# EAGLE library part 50R-JMCS-G (library jst-jmc)
0.5mm Pitch SMT Board to Board Connector Source: http://www.jst-mfg.com/product/pdf/jpn/JMC.pdf http://www.jst-mfg.com/product/detail.php?series=147
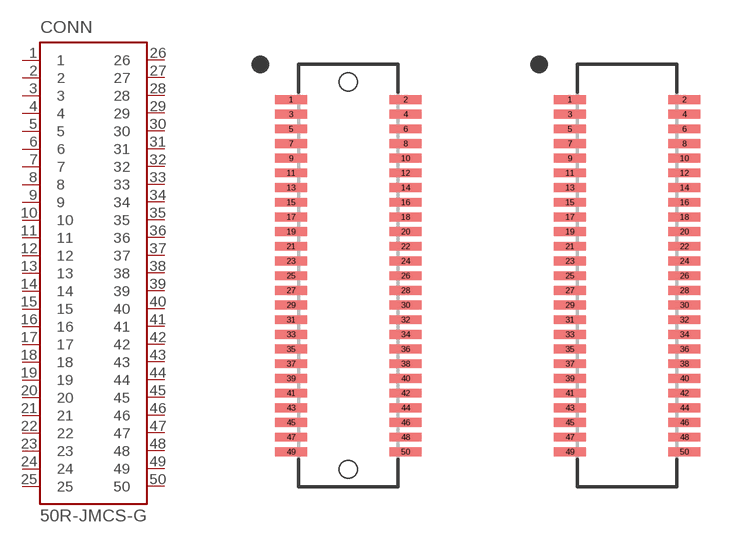
[diagram p19: symbol with the pads of 50R-JMCS-G-B-TF(S); footprints 50R-JMCS-G-B-TF(S), 50R-JMCS-G-TF(S)]

Designator prefix CONN

## 50R-JMCS-G-B-TE(S)  [50R-JMCS-G-B-TF(S)]
1  1
2  2
3  3
4  4
5  5
6  6
7  7
8  8
9  9
10  10
11  11
12  12
13  13
14  14
15  15
16  16
17  17
18  18
19  19
20  20
21  21
22  22
23  23
24  24
25  25
26  26
27  27
28  28
29  29
30  30
31  31
32  32
33  33
34  34
35  35
36  36
37  37
38  38
39  39
40  40
41  41
42  42
43  43
44  44
45  45
46  46
47  47
48  48
49  49
50  50

## 50R-JMCS-G-TE(S)  [50R-JMCS-G-TF(S)]
Pads as for 50R-JMCS-G-B-TF(S)

## Footprint 50R-JMCS-G-B-TF(S) (pad centres in mm)
smd 1.1 x 0.3: 1 -1.95,6; 2 1.95,6; 3 -1.95,5.5; 4 1.95,5.5; 5 -1.95,5; 6 1.95,5; 7 -1.95,4.5; 8 1.95,4.5; 9 -1.95,4; 10 1.95,4; 11 -1.95,3.5; 12 1.95,3.5; 13 -1.95,3; 14 1.95,3; 15 -1.95,2.5; 16 1.95,2.5; 17 -1.95,2; 18 1.95,2; 19 -1.95,1.5; 20 1.95,1.5; 21 -1.95,1; 22 1.95,1; 23 -1.95,0.5; 24 1.95,0.5; 25 -1.95,0; 26 1.95,0; 27 -1.95,-0.5; 28 1.95,-0.5; 29 -1.95,-1; 30 1.95,-1; 31 -1.95,-1.5; 32 1.95,-1.5; 33 -1.95,-2; 34 1.95,-2; 35 -1.95,-2.5; 36 1.95,-2.5; 37 -1.95,-3; 38 1.95,-3; 39 -1.95,-3.5; 40 1.95,-3.5; 41 -1.95,-4; 42 1.95,-4; 43 -1.95,-4.5; 44 1.95,-4.5; 45 -1.95,-5; 46 1.95,-5; 47 -1.95,-5.5; 48 1.95,-5.5; 49 -1.95,-6; 50 1.95,-6
hole 0.6 at 0,6.6
hole 0.6 at 0,-6.6

## Footprint 50R-JMCS-G-TF(S) (pad centres in mm)
smd 1.1 x 0.3: 1 -1.95,6; 2 1.95,6; 3 -1.95,5.5; 4 1.95,5.5; 5 -1.95,5; 6 1.95,5; 7 -1.95,4.5; 8 1.95,4.5; 9 -1.95,4; 10 1.95,4; 11 -1.95,3.5; 12 1.95,3.5; 13 -1.95,3; 14 1.95,3; 15 -1.95,2.5; 16 1.95,2.5; 17 -1.95,2; 18 1.95,2; 19 -1.95,1.5; 20 1.95,1.5; 21 -1.95,1; 22 1.95,1; 23 -1.95,0.5; 24 1.95,0.5; 25 -1.95,0; 26 1.95,0; 27 -1.95,-0.5; 28 1.95,-0.5; 29 -1.95,-1; 30 1.95,-1; 31 -1.95,-1.5; 32 1.95,-1.5; 33 -1.95,-2; 34 1.95,-2; 35 -1.95,-2.5; 36 1.95,-2.5; 37 -1.95,-3; 38 1.95,-3; 39 -1.95,-3.5; 40 1.95,-3.5; 41 -1.95,-4; 42 1.95,-4; 43 -1.95,-4.5; 44 1.95,-4.5; 45 -1.95,-5; 46 1.95,-5; 47 -1.95,-5.5; 48 1.95,-5.5; 49 -1.95,-6; 50 1.95,-6